# EAGLE library part MAXIM_MAX481CUA (library DMX)
RS485 TRANSEIVER
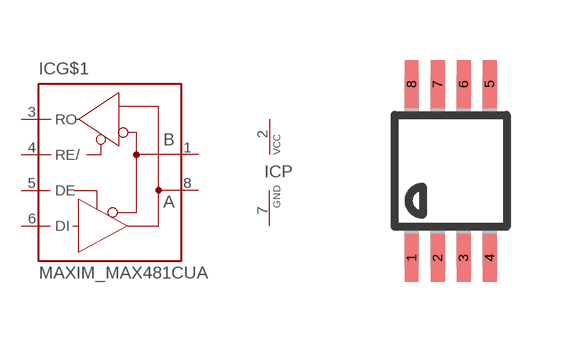
[diagram p1: symbol with the pads of MAXIM_UMAX8; footprint MAXIM_UMAX8]

Designator prefix IC; gates G$1=MAXIM_MAX481 P=MAXIM_VCC-GND

## MAXIM_MAX481CUA  [MAXIM_UMAX8]
1  G$1:B  pas
2  P:VCC  pwr
3  G$1:RO  out
4  G$1:RE/  in
5  G$1:DE  in
6  G$1:DI  in
7  P:GND  pwr
8  G$1:A  pas

## Footprint MAXIM_UMAX8 (pad centres in mm)
micro MAX Package
smd 0.35 x 1.2: 1 -0.975,-2.175; 2 -0.325,-2.175; 3 0.325,-2.175; 4 0.975,-2.175; 5 0.975,2.175; 6 0.325,2.175; 7 -0.325,2.175; 8 -0.975,2.175